# Altium footprint library theremin_PcbLib.PcbLib: 24 footprints (part 1 of 2)
Each footprint in its own frame and in the unit in brackets; x right, y up, seen from the top. Pads: shape width x height; smd on the part's side, far side on the other; paste and mask are expansions set on the pad; w line width, h text height; cw(c..) or ccw(c..) is an arc to the next point about the centre after c.
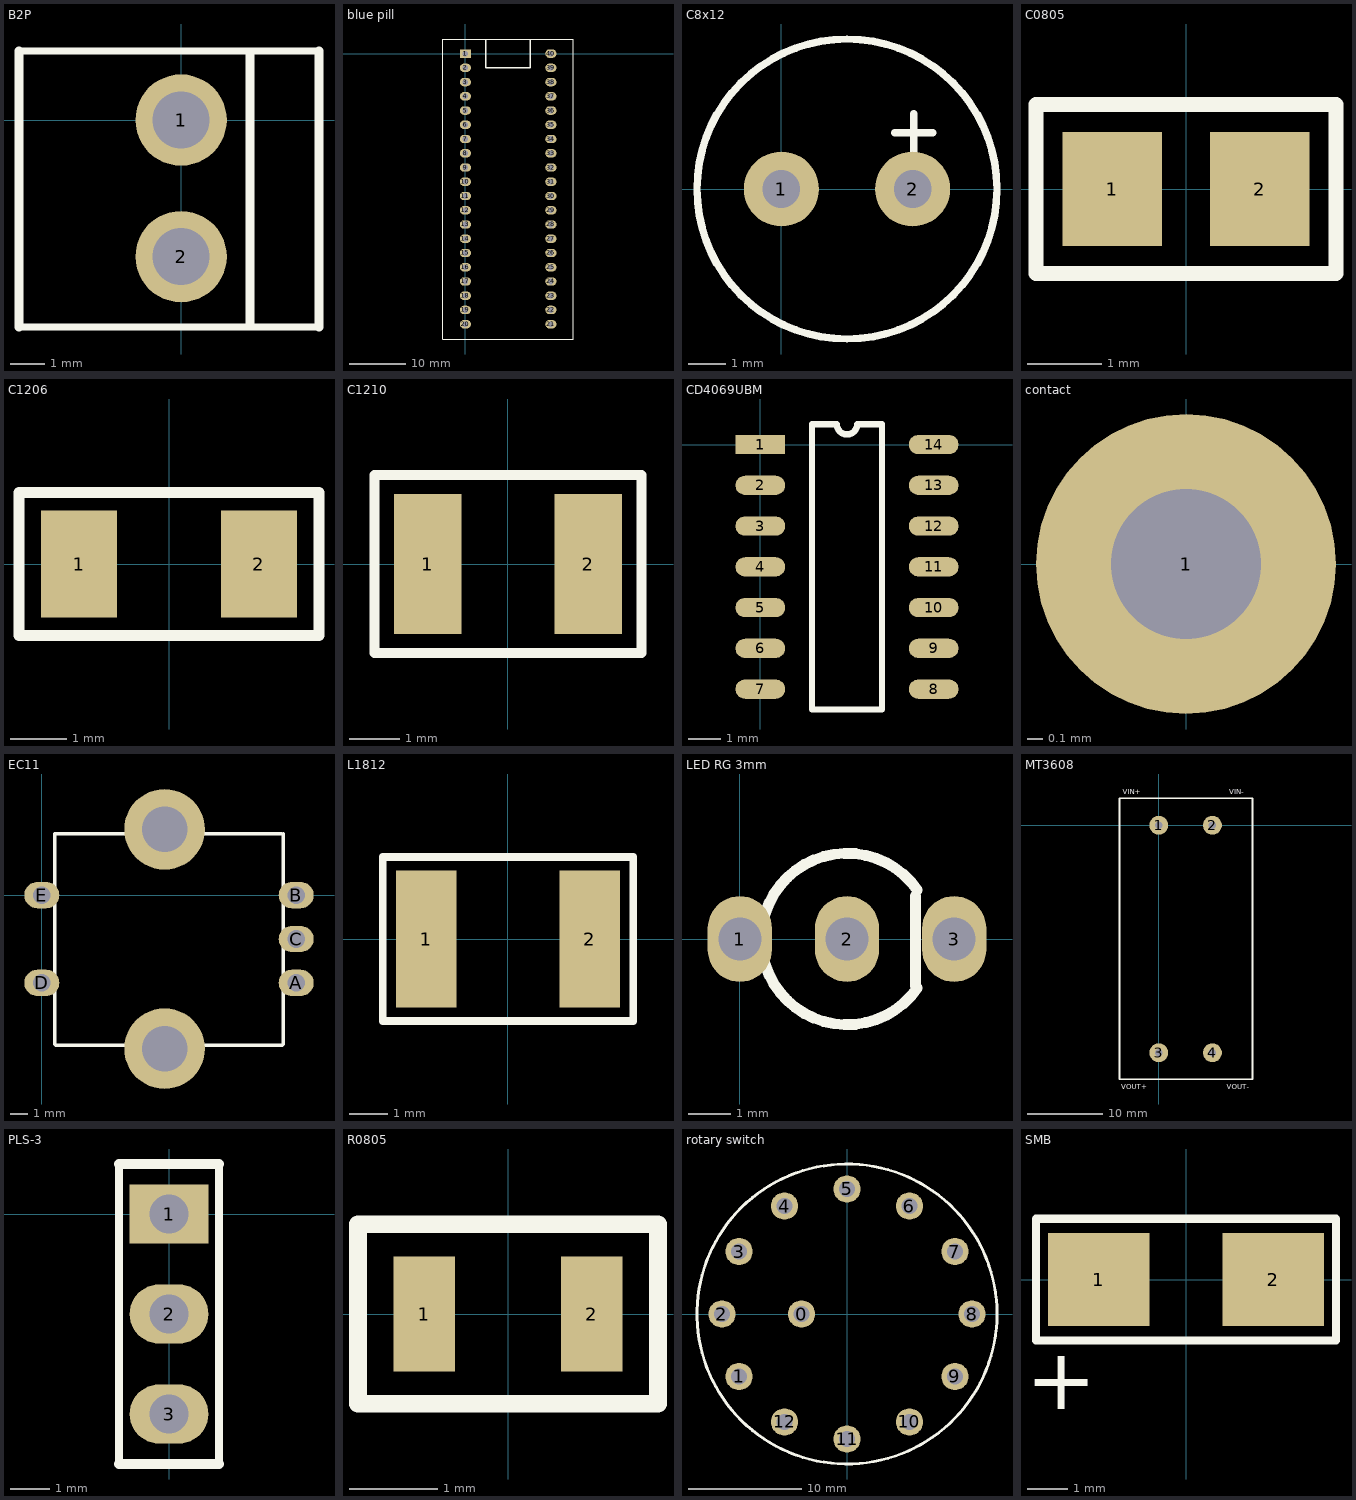
[diagram p0: the footprints below, top view; thin cyan lines are the x and y axes]

## B2P [mm] "connector"
pads (2):
  round 2.65 hole 1.65: 1(0,0) 2(0,-3.96)
Top Overlay:
  lines w0.2: -4.7,-6 4,-6 ; -4.7,2 4,2
  lines w0.254: -4.7,-6 -4.7,2 ; 2,-5.91 2,1.95 ; 4,-6 4,2
3D body "User Library-B2P-VH.STEP": height 10.9, standoff -3.7, extent -4.6,-5.93 3.9,1.93

## blue pill [mm]
pads (40):
  rect 2x1.5 hole 1: 1(0,0)
  oval 2x1.5 hole 1: 2(0,-2.54) 3(0,-5.08) 4(0,-7.62) 5(0,-10.16) 6(0,-12.7) 7(0,-15.24) 8(0,-17.78) 9(0,-20.32) 10(0,-22.86) 11(0,-25.4) 12(0,-27.94) 13(0,-30.48) 14(0,-33.02) 15(0,-35.56) 16(0,-38.1) 17(0,-40.64) 18(0,-43.18) 19(0,-45.72) 20(0,-48.26) 21(15.24,-48.26) 22(15.24,-45.72) 23(15.24,-43.18) 24(15.24,-40.64) 25(15.24,-38.1) 26(15.24,-35.56) 27(15.24,-33.02) 28(15.24,-30.48) 29(15.24,-27.94) 30(15.24,-25.4) 31(15.24,-22.86) 32(15.24,-20.32) 33(15.24,-17.78) 34(15.24,-15.24) 35(15.24,-12.7) 36(15.24,-10.16) 37(15.24,-7.62) 38(15.24,-5.08) 39(15.24,-2.54) 40(15.24,0)
Top Overlay:
  lines w0.2: -4,-50.9 -4,2.6 19.2,2.6 19.2,-50.9 -4,-50.9
  lines w0.254: 3.6,2.5 3.6,-2.5 11.6,-2.5 11.6,2.5
3D body "STM32F103C8T6_Blue_Pill v6.step": height 12.27, standoff -6, extent -3.83,-54.1 19.03,3.46

## C8x12 [mm]
pads (2):
  round 2 hole 1: 1(0,0) 2(3.5,0)
Top Overlay:
  circle w0.2: c1.75,0 r4
  lines w0.2: 3.017,1.5 4.033,1.5 ; 3.525,0.992 3.525,2.008
3D body "User Library-Cap-EL(8x12-3_5)T.step": height 12.3, standoff -3.3, extent -2.302,-4 5.7,4

## C0805 [mm]
pads (2):
  rect 1.35x1.55 smd: 1(-1,0) 2(1,0)
Top Overlay:
  lines w0.2: -2.032,-1.143 2.032,-1.143 2.032,1.143 -2.032,1.143 -2.032,-1.143
3D body "User Library-cap_0805-1.step": height 1.2, standoff 0, extent -1,-0.6 1,0.6

## C1206 [mm]
pads (2):
  rect 1.35x1.9 smd: 1(-1.6,0) 2(1.6,0)
Top Overlay:
  lines w0.2: -2.667,-1.27 -2.667,1.27 2.667,1.27 2.667,-1.27 -2.667,-1.27
3D body "User Library-cap_1206-1.step": height 1.6, standoff 0, extent -1.6,-0.8 1.6,0.8

## C1210 [mm]
pads (2):
  rect 1.35x2.8 smd: 1(-1.6,0) 2(1.6,0)
Top Overlay:
  lines w0.2: -2.667,-1.778 -2.667,1.778 2.667,1.778 2.667,-1.778 -2.667,-1.778
3D body "User Library-cap_1210.step": height 2.5, standoff 0, extent -1.6,-1.25 1.6,1.25

## CD4069UBM [mm]
pads (14):
  rect 1.55x0.6 smd: 1(0,0)
  oval 1.55x0.6 smd: 2(0,-1.27) 3(0,-2.54) 4(0,-3.81) 5(0,-5.08) 6(0,-6.35) 7(0,-7.62) 8(5.4,-7.62) 9(5.4,-6.35) 10(5.4,-5.08) 11(5.4,-3.81) 12(5.4,-2.54) 13(5.4,-1.27) 14(5.4,0)
Top Overlay:
  lines w0.2: 1.61,-8.255 3.79,-8.255 3.79,0.635 3.017,0.635 cw(c2.7,0.635) 2.382,0.635 1.61,0.635 1.61,-8.255
3D body "CircuitWorks-SO-14.step": height 1.75, standoff 0, extent -0.381,-8.128 5.715,0.508

## contact [mm]
pads (1):
  round 2 hole 1: 1(0,0)

## EC11 [mm]
pads (7):
  oval 2x1.5 hole 1: A(14.5,-5) B(14.5,0) C(14.5,-2.5) D(0,-5) E(0,0)
  round 4.6 hole 2.6: ""(7,-8.75) ""(7,3.75)
Top Overlay:
  lines w0.2: 13.65,3.5 0.75,3.5 0.75,-8.5 0.8,-8.55 13.7,-8.55 ; 13.75,-8.5 13.75,3.5
3D body "User Library-EC11E-05SW.step": height 24.5, standoff -3.65, extent -0.225,-8.356 14.725,3.356

## L1812 [mm]
pads (2):
  rect 1.6x3.6 smd: 1(-2.15,0) 2(2.15,0)
Top Overlay:
  lines w0.2: -3.302,-2.159 3.302,-2.159 3.302,2.159 -3.302,2.159 -3.302,-2.159
3D body "User Library-B82432T.STEP": height 3.24, standoff -0.09, extent -2.25,-1.549 2.25,1.651

## LED RG 3mm [mm]
pads (3):
  oval 1.5x2 hole 1: 1(0,0) 2(2.5,0) 3(5,0)
Top Overlay:
  lines w0.254: 4.1,-1.1 4.1,1 ; 4.138,-1.147 cw(c2.5,0) 4.138,1.147
3D body "everlight-3MM-LED-RG.step": height 8.67, standoff -1, extent -0.24,-1.9 5.24,1.9

## MT3608 [mm]
pads (4):
  round 2.5 hole 1: 1(0,0) 2(7.1,0) 3(0,-30.1) 4(7.1,-30.1)
Top Overlay:
  lines w0.2: -5.2,-33.6 12.4,-33.6 12.4,3.6 -5.2,3.6 -5.2,-33.6
  text "VIN+" at -4.8,4.1 h0.7
  text "VIN-" at 9.3,4.1 h0.7
  text "VOUT+" at -5,-34.9 h0.7
  text "VOUT-" at 9,-34.9 h0.7
3D body "User Library-MT3608.STEP": height 7.5, standoff -0.94, extent -5.1,-33.5 12.3,3.5

## PLS-3 [mm]
pads (3):
  rect 2x1.5 hole 1: 1(0,0)
  oval 2x1.5 hole 1: 2(0,-2.54) 3(0,-5.08)
Top Overlay:
  lines w0.2: -1.27,-6.35 -1.27,1.27 ; 1.27,-6.35 1.27,1.27
  lines w0.254: -1.27,-6.35 1.27,-6.35 ; -1.27,1.27 1.27,1.27
3D body "User Library-PLS-03.step": height 8, standoff -3.3, extent -1.25,-6.35 1.25,1.27

## R0805 [mm]
pads (2):
  rect 0.7x1.3 smd: 1(-0.95,0) 2(0.95,0)
Top Overlay:
  lines w0.2: -1.7,-1.016 -1.7,1.016 1.7,1.016 1.7,-1.016 -1.7,-1.016
3D body "User Library-CR2012-0805.step": height 0.6, standoff 0, extent -1,-0.625 1,0.625

## rotary switch [mm]
pads (13):
  round 2.4 hole 1.4: 0(-4,0) 1(-9.5,-5.5) 2(-11,0) 3(-9.5,5.5) 4(-5.5,9.5) 5(0,11) 6(5.5,9.5) 7(9.5,5.5) 8(11,0) 9(9.5,-5.5) 10(5.5,-9.5) 11(0,-11) 12(-5.5,-9.5)
Top Overlay:
  circle w0.254: c0,0 r13.2
3D body "User Library-Sw Rotary SP 12-Way.step": height 31.9, standoff -5.4, extent -19.258,-19.257 19.257,19.257

## SMB [mm]
pads (2):
  rect 2.5x2.3 smd: 1(-2.15,0) 2(2.15,0)
Top Overlay:
  lines w0.2: -3.7,-1.5 -3.7,1.5 3.7,1.5 3.7,-1.5 -3.7,-1.5
  text "+" at -2.2,-3.2 h1.52
3D body "User Library-DO-214AA SMB.step": height 2.3, standoff 0, extent -2.7,-1.8 2.7,1.8